# Altium schematic symbol library nrf.SchLib: 1 symbol
Pins are listed as number, name and electrical type; pins without a type are passive.

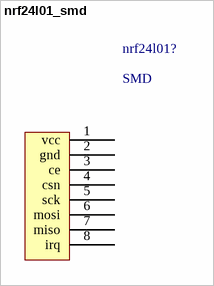
[diagram p0: symbol nrf24l01_smd]

## nrf24l01_smd
designator nrf24l01?, comment SMD
footprint NRF24L01 (smd)
pins: 1 vcc, 2 gnd, 3 ce, 4 csn, 5 sck, 6 mosi, 7 miso, 8 irq